# EAGLE library part P-CHANNEL-SI9400DY (library transistor-fet)
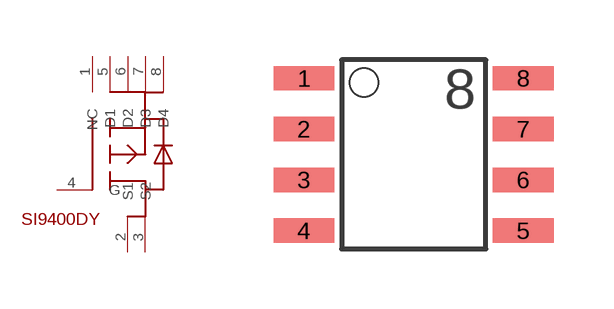
[diagram p1: symbol with the pads of SO-8; footprint SO-8]

Designator prefix -

## P-CHANNEL-SI9400DY  [SO-8]
1  NC
2  S1
3  S2
4  G
5  D1
6  D2
7  D3
8  D4

## Footprint SO-8 (pad centres in mm)
smd 1.524 x 0.61: 1 -2.743,1.27; 2 -2.743,0; 3 -2.743,-1.27; 4 -2.743,-2.54; 5 2.743,-2.54; 6 2.743,-1.27; 7 2.743,0; 8 2.743,1.27